# Altium integrated library BL8555-25PRA.IntLib: 1 symbol
Pins are listed as number, name and electrical type; pins without a type are passive.

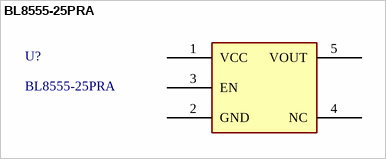
[diagram p0: symbol BL8555-25PRA]

## BL8555-25PRA
designator U?
BL8555-25PRA   2.5 V regulator; MF: Analog Devices; MP: LT1722CS5#TRMPBF; SnapEDA_Link: https://www.snapeda.com/parts/LT1722CS5%23TRMPBF/Analog+Devices/view-part/?ref=snap; Package: SOT-5 Analog Devices; Value: *; Check_prices: https://www.snapeda.com/parts/LT1722CS5%23TRMPBF/Analog+Devices/view-part/?ref=eda
footprint TSOT-23_S5
pins: 1 VCC, 2 GND, 3 EN, 4 NC, 5 VOUT